# EAGLE library part RCA-4-CHANNEL (library Class D Amp)
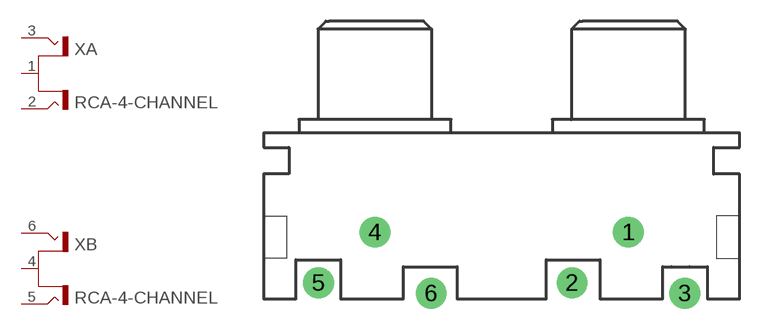
[diagram p3: symbol with the pads of BKL-072385; footprint BKL-072385]

Designator prefix X; gates A=CINCH2 B=CINCH2

## RCA-4-CHANNEL  [BKL-072385]
1  A:S  pas
2  A:T1  pas
3  A:T2  pas
4  B:S  pas
5  B:T1  pas
6  B:T2  pas

## Footprint BKL-072385 (pad centres in mm)
RCA JACK DIP R/A 4pos Source: RCA-4-117-01x.pdf
drill 1.2 pad 2.184: 1 9,3.1; 2 5,-0.5; 3 13,-1.25; 4 -9,3.1; 5 -13,-0.5; 6 -5,-1.25